# Altium schematic symbol library 2x5_10P_Header.SchLib: 1 symbol
Pins are listed as number, name and electrical type; pins without a type are passive.

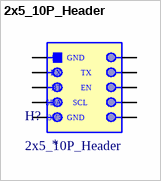
[diagram p0: symbol 2x5_10P_Header]

## 2x5_10P_Header
designator H?
LCSC: *
footprint 2x5_10P_Header
pins: 1 5v, 2, 3, 4, 5, 6, 7, 8, 9, 10
text: 5V; GND; RX; TX; BT; EN; SDA; SCL; 3V3